# EAGLE library part SRAM_32K256 (library myLib)
4-Mbit SPI flash memory
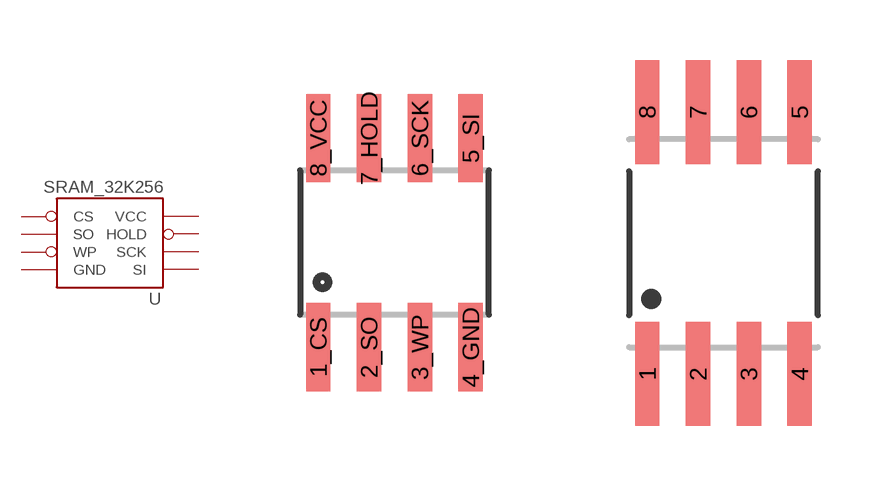
[diagram p6: symbol with the pads of LOWPOWERLAB_SO08; footprints LOWPOWERLAB_SO08, LOWPOWERLAB_SO08WIDE]

Designator prefix -

## SRAM_32K256JEDEC_3.9MM (CONRAD: 651216 - 62)  [LOWPOWERLAB_SO08]
1_CS  CS
2_SO  SO
3_WP  WP
4_GND  GND
5_SI  SI
6_SCK  SCK
7_HOLD  HOLD
8_VCC  VCC

## SRAM_32K256WIDE_5.3MM  [LOWPOWERLAB_SO08WIDE]
1  CS
2  SO
3  WP
4  GND
5  SI
6  SCK
7  HOLD
8  VCC

## Footprint LOWPOWERLAB_SO08 (pad centres in mm)
Small Outline Package Fits JEDEC packages (narrow SOIC-8)
smd 0.61 x 2.21: 1_CS -1.905,-2.616; 2_SO -0.635,-2.616; 3_WP 0.635,-2.616; 4_GND 1.905,-2.616; 5_SI 1.905,2.616; 6_SCK 0.635,2.616; 7_HOLD -0.635,2.616; 8_VCC -1.905,2.616

## Footprint LOWPOWERLAB_SO08WIDE (pad centres in mm)
smd 0.61 x 2.6: 1 -1.905,-3.269; 2 -0.635,-3.269; 3 0.635,-3.269; 4 1.905,-3.269; 5 1.905,3.286; 6 0.635,3.286; 7 -0.635,3.286; 8 -1.905,3.286